# Altium footprint library J8.PcbLib: 1 footprints
Each footprint in its own frame and in the unit in brackets; x right, y up, seen from the top. Pads: shape width x height; smd on the part's side, far side on the other; paste and mask are expansions set on the pad; w line width, h text height; cw(c..) or ccw(c..) is an arc to the next point about the centre after c.
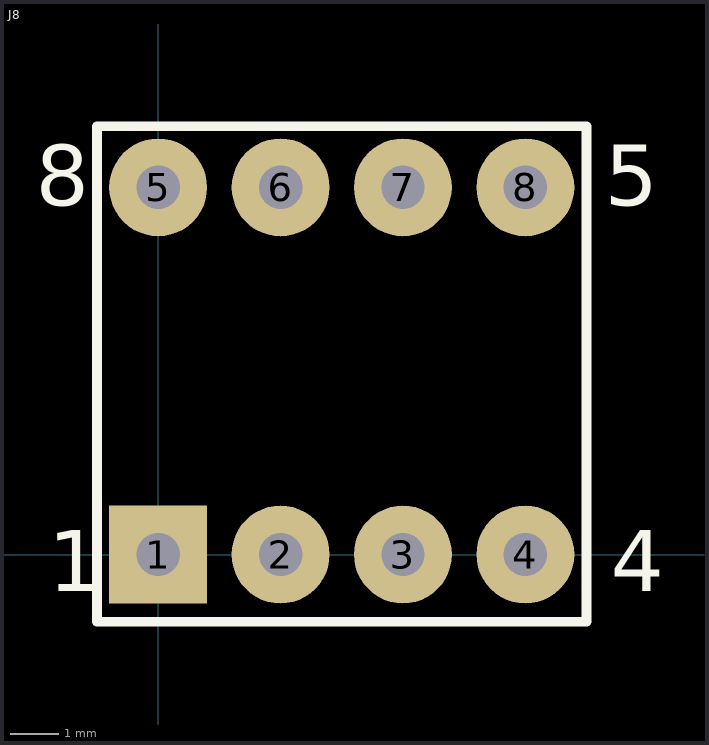
[diagram p0: the footprint, top view; thin cyan lines are the x and y axes]

## J8 [mil]
pads (8):
  rect 80x80 hole 35.43: 1(0,0)
  round 80 hole 35.43: 2(100,0) 3(200,0) 4(300,0) 5(0,300) 6(100,300) 7(200,300) 8(300,300)
Top Overlay:
  lines w7.87: -50,-55 -50,350 350,350 350,-55 -50,-55
  text "8" at -100,285 h50
  text "4" at 370,-30 h50
  text "1" at -90,-30 h50
  text "5" at 365,285 h50